# EAGLE library part RJ45-HY931147C (library Connector)
single port RJ45 connector with LEDs and integrated magnetics for 10/100 Base-TX PoE application
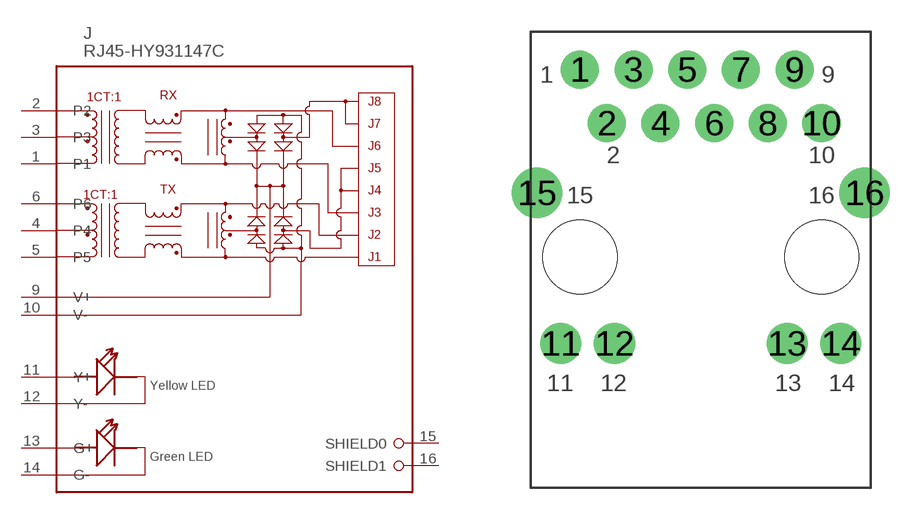
[diagram p40: symbol with the pads of RJ45-HY931147C; footprint RJ45-HY931147C]

Designator prefix J

## RJ45-HY931147C  [RJ45-HY931147C]
1  P1
2  P2
3  P3
4  P4
5  P5
6  P6
9  V+
10  V-
11  Y+
12  Y-
13  G+
14  G-
15  SHIELD0
16  SHIELD1

## Footprint RJ45-HY931147C (pad centres in mm)
drill 1.2 pad 1.75 round: 1 -5.72,8.89; 2 -4.45,6.35; 3 -3.18,8.89; 4 -1.91,6.35; 5 -0.64,8.89; 6 0.63,6.35; 7 1.9,8.89; 8 3.17,6.35; 9 4.44,8.89; 10 5.71,6.35
drill 1.3 pad 1.85 round: 11 -6.625,-4.08; 12 -4.085,-4.08; 13 4.085,-4.08; 14 6.625,-4.08
drill 1.6 pad 2.286 round: 15 -7.745,3.05; 16 7.745,3.05
hole 3.5 at 5.715,0
hole 3.5 at -5.715,0